# EAGLE library part SD-SLOT (library work)
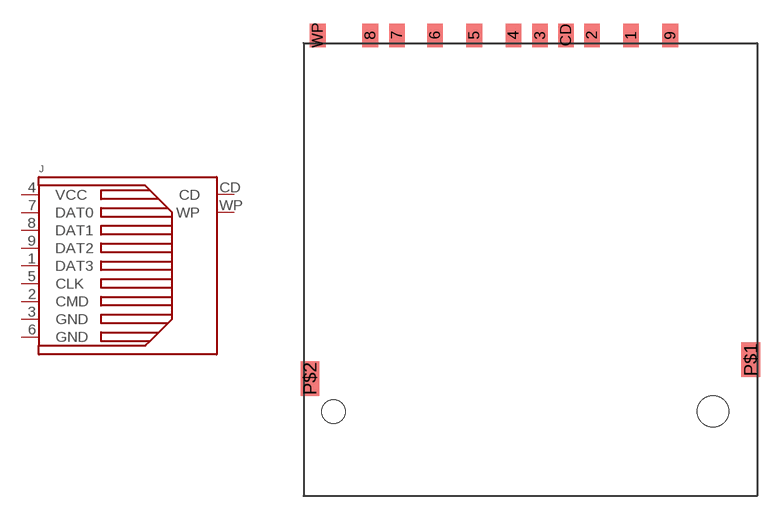
[diagram p22: symbol with the pads of SD-SLOT; footprint SD-SLOT]

Designator prefix J

## SD-SLOT  [SD-SLOT]
1  DAT3
2  CMD
3  GND
4  VCC
5  CLK
6  GND
7  DAT0
8  DAT1
9  DAT2
CD  CD
WP  WP

## Footprint SD-SLOT (pad centres in mm)
smd 1 x 1.5: 1 6.875,0.5; 2 4.375,0.5; 3 1.075,0.5; 4 -0.625,0.5; 5 -3.125,0.5; 6 -5.625,0.5; 7 -8.05,0.5; 8 -9.75,0.5; 9 9.375,0.5; CD 2.725,0.5; WP -13.1,0.5
smd 1.2 x 2.2: P$1 14.5,-20.2; P$2 -13.6,-21.4
hole 2 at 12.1,-23.5
hole 1.5 at -12.1,-23.5